# Altium footprint library RES SMD.PcbLib: 33 footprints (part 1 of 3)
Each footprint in its own frame and in the unit in brackets; x right, y up, seen from the top. Pads: shape width x height; smd on the part's side, far side on the other; paste and mask are expansions set on the pad; w line width, h text height; cw(c..) or ccw(c..) is an arc to the next point about the centre after c.
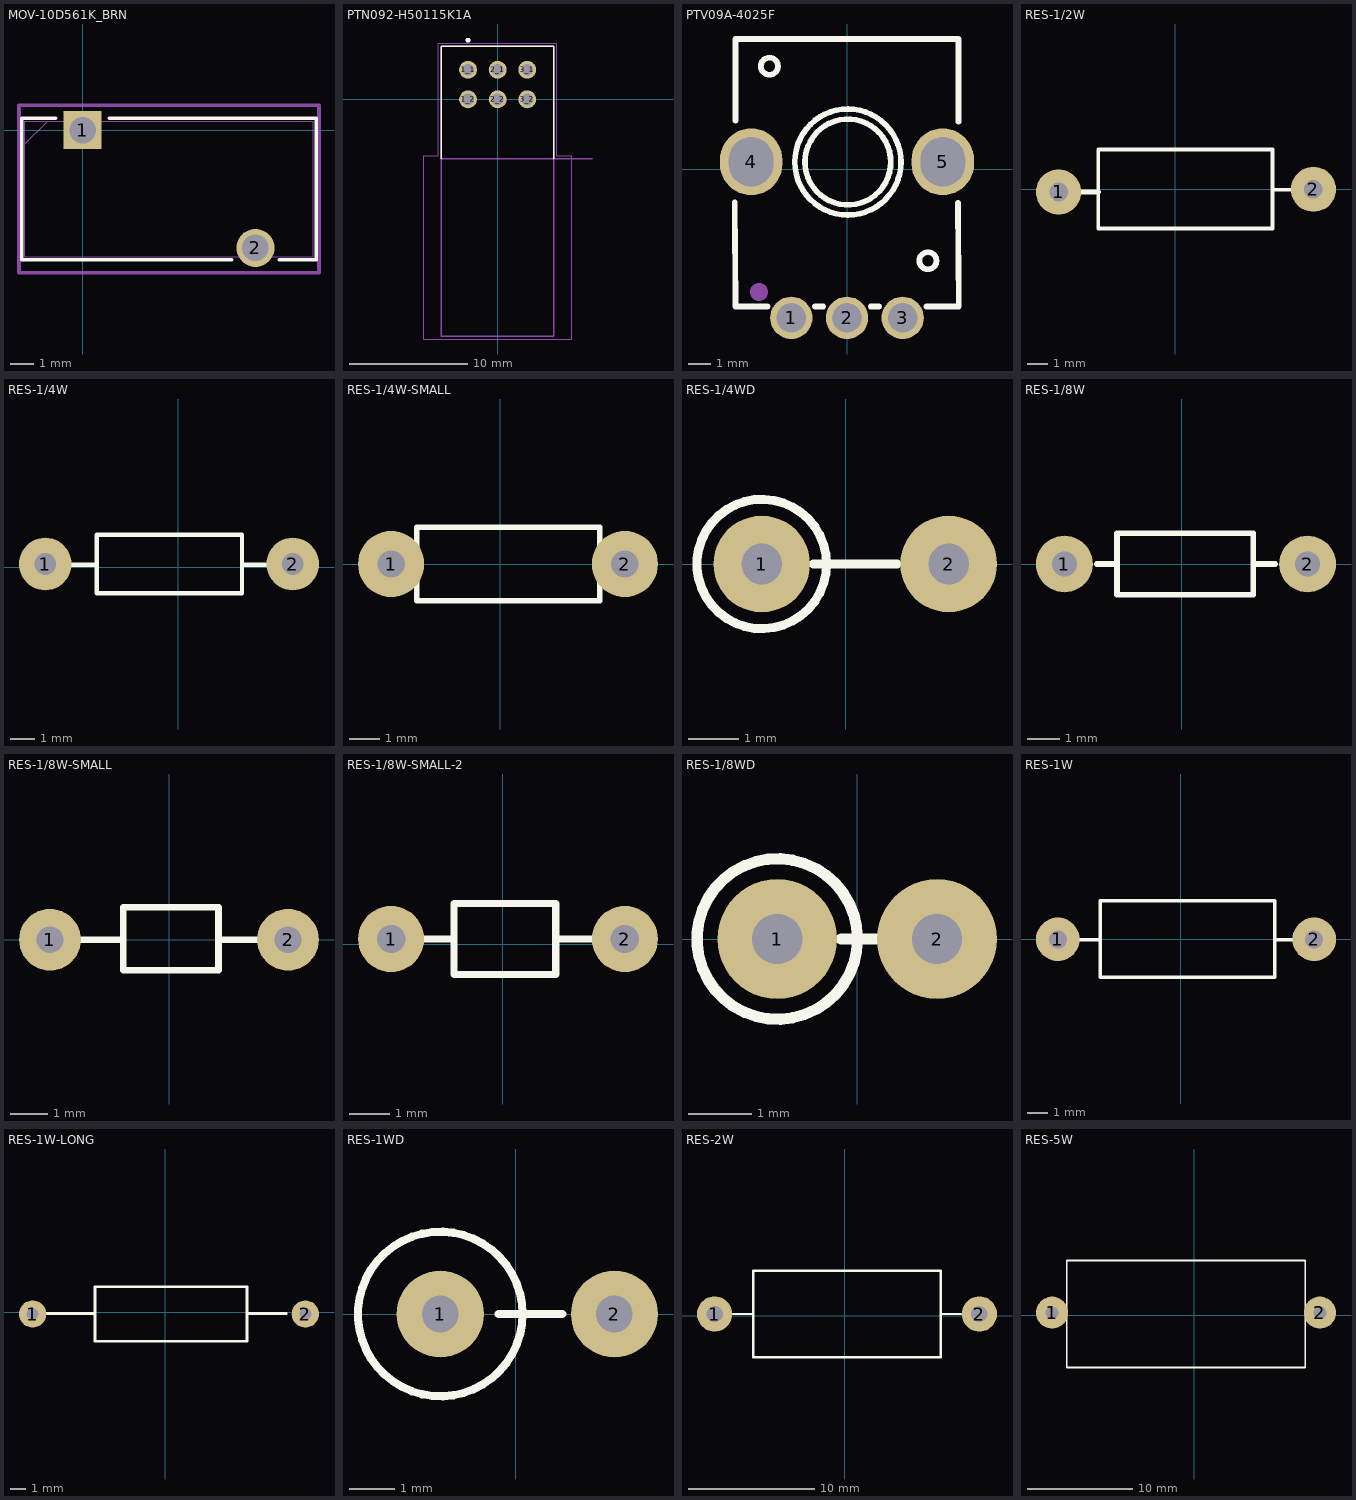
[diagram p0: the footprints below, top view; thin cyan lines are the x and y axes]

## MOV-10D561K_BRN [mil]
pads (2):
  rect 65x65 / inner round 60 / far side rect 65x65 hole 45 paste-32.5 mask+0: 1(0,0)
  round 65 / inner round 60 / far side round 65 hole 45 paste-32.5 mask+0: 2(295,-201)
Top Overlay:
  lines w6: -45.6,20.5 -103.5,20.5 -103.5,-221.5 254.27,-221.5 ; 45.6,20.5 398.5,20.5 398.5,-221.5 335.73,-221.5
Mechanical 15:
  lines w1: -98.5,-23.5 -59.5,15.5 ; -98.5,-216.5 -98.5,15.5 393.5,15.5 393.5,-216.5 -98.5,-216.5
  lines w6: -108.5,-243.5 403.5,-243.5 403.5,42.5 -108.5,42.5 -108.5,-243.5
Mechanical 29:
  text "'.Designator'" at -75,-125 h50
3D body "MOV-10D561K_BRN.step": height 727.99, standoff -250, extent -90.98,-221.84 400.99,21.86

## PTN092-H50115K1A [mm]
height 11.3
pads (6):
  round 1.508 hole 1: 1_1(-2.5,2.5) 1_2(-2.5,0) 2_1(0,2.5) 2_2(0,0) 3_1(2.5,2.5) 3_2(2.5,0)
Top Overlay:
  circle w0.2: c-2.5,5 r0.1
  lines w0.127: -4.75,-5 -4.75,4.5 4.75,4.5 4.75,-5
Mechanical 13:
  circle w0.2: c-2.5,5 r0.1
  lines w0.127: 8,-5 -4.75,-5 ; -4.75,-5 -4.75,4.5 4.75,4.5 4.75,-20 -4.75,-20 -4.75,-5
  text "PCB EDGE" at 5.25,-4.75 h1.02
Mechanical 15:
  lines w0.05: -6.25,-20.25 6.25,-20.25 6.25,-4.75 5,-4.75 5,4.75 -5,4.75 -5,-4.75 -6.25,-4.75 -6.25,-20.25
Mechanical 29:
  text "'.Designator'" at -2.667,-2.54 h1.52
3D body "User Library-Bournes Potentiometer PTD90 Series.STEP": height 13.8, standoff -1, extent -4.8,-19.946 4.699,4.706

## PTV09A-4025F [mm]
pads (5):
  round 1.9 hole 1.3 slot 1.305 at 0 deg paste+0 mask+0.051: 1(-2.515,-6.67) 2(-0.015,-6.67) 3(2.485,-6.67)
  oval 2.8x3 hole 2 slot 2.2 at 90 deg paste+0 mask+0.051: 4(-4.315,0.33) 5(4.285,0.33)
Top Overlay:
  lines w0.254: -5.045,-1.49 -5.015,-6.16 -3.58,-6.16 ; -5.015,2.18 -5.015,5.84 4.985,5.84 4.985,2.13 ; -3.879,4.62 ccw(c-3.495,4.62) -3.879,4.624 ; -2.355,0.32 ccw(c0.025,0.32) -2.355,0.326 ; -1.9,0.32 ccw(c0.025,0.321) -1.9,0.325 ; -1.45,-6.16 -1.08,-6.16 ; 1.05,-6.16 1.42,-6.16 ; 3.231,-4.11 ccw(c3.615,-4.11) 3.231,-4.106 ; 3.55,-6.16 4.995,-6.16 4.965,-1.52
Mechanical 29:
  lines w0.4: -4.165,-5.51 ccw(c-3.965,-5.51) -4.165,-5.505
  text "'.Designator'" at 0.127,0.762 h1.52
3D body "User Library-PTV09A-4.STEP": height 34.14, standoff -1.13, extent -5.65,-6.758 5.65,5.842

## RES-1/2W [mil]
height 100
pads (2):
  round 85 hole 35: 1(-220,-5) 2(260,0)
Top Overlay:
  lines w7: 183,-1 221,-1 ; -145,-73.81 -145,75 183,75 183,-73.81 -145,-73.81
  lines w10: -195,-5 -145,-5
Mechanical 29:
  text "'.Designator'" at -130,-30.01 h60
3D body "User Library-Metal film resistor0_5W.step": height 121.06, standoff -118.11, extent -230,-60 270,56.14

## RES-1/4W [mil]
height 100
pads (2):
  round 85 hole 35: 1(-215,5) 2(185,5)
Top Overlay:
  lines w7: -173,4 -132,4 ; 103,4 141,4 ; -132,-42.24 103,-42.24 103,52.25 -132,52.25 -132,-42.24
Mechanical 29:
  text "'.Designator'" at -160,-15.01 h60
3D body "User Library-Res40-Axial Short 0_25W-0_1R.step": height 95, standoff -78.74, extent -226.8,-42.24 196.82,52.25

## RES-1/4W-SMALL [mil]
height 100
pads (2):
  round 85 hole 35: 1(-140,0) 2(160,0)
Top Overlay:
  lines w7: -148,-1 -107,-1 ; 128,-1 166,-1 ; -107,-47.24 -107,47.25 128,47.25 128,-47.24 -107,-47.24
Mechanical 29:
  text "'.Designator'" at -135,-10.01 h60
3D body "User Library-R-Axial-0_25W-7_62.step": height 97.35, standoff -146.85, extent -151.8,-47.35 171.82,47.36

## RES-1/4WD [mil]
height 100
pads (2):
  round 75 hole 31.5: 1(-65,0) 2(80,0)
Top Overlay:
  circle w7: c-65,0 r50.25
  lines w7: -25,0 40,0
Mechanical 29:
  text "'.Designator'" at -75,-20.01 h60
3D body "User Library-RESAD375W60L650D230_0_25W.STEP": height 379.42, standoff -104.83, extent -112.36,-45 92.36,45.55

## RES-1/8W [mil]
height 100
pads (2):
  round 70 hole 31: 1(-145,0) 2(155,0)
Top Overlay:
  lines w7: -105,0 -80,0 ; 88,0 115,0 ; -80,-38 -80,38 88,38 88,-38 -80,-38
Mechanical 29:
  text "'.Designator'" at -155,-25.01 h60
3D body "SW3DPS-RESISTOR 7_62MM DIP-DEFAULT.STEP": height 79.37, standoff -78.11, extent -154.45,-40 164.45,38.74

## RES-1/8W-SMALL [mil] "R 1/8W, 2 pin, 200mil"
height 100
pads (2):
  round 65 hole 28: 1(-125,0) 2(125,0)
Top Overlay:
  lines w7: -95,0 -48,0 ; 55,0 95,0 ; -48,-32 -48,34 52,34 52,-32 -48,-32
Mechanical 29:
  text "'.Designator'" at -120,-25.01 h60
3D body "SW3dPS-Res_Normal (0.25W).STEP": height 76.31, standoff -78.11, extent -135,-35.48 135,37

## RES-1/8W-SMALL-2 [mil] "R 1/8W, 2 pin, 200mil"
height 100
pads (2):
  round 65 hole 28: 1(-110,5) 2(120,5)
Top Overlay:
  lines w7: -95,5 -48,5 ; 55,5 95,5 ; -48,-30 -48,40 52,40 52,-30 -48,-30
Mechanical 29:
  text "'.Designator'" at -145,-15.01 h60
3D body: height 74.8, standoff -78.74, extent -120.98,-30 130.98,40.87

## RES-1/8WD [mm]
height 2.54
pads (2):
  round 1.905 hole 0.8: 1(-1.27,0) 2(1.27,0)
Top Overlay:
  circle w0.178: c-1.27,0 r1.276
  lines w0.178: -0.254,0 0.381,0
Mechanical 29:
  text "'.Designator'" at -3.556,0.889 h1.52
3D body "SW3dPS-Res_Stand.STEP": height 7.3, standoff -1.45, extent -2.159,-0.92 1.553,0.921

## RES-1W [mil]
height 100
pads (2):
  round 85 hole 35: 1(-240,0) 2(260,0)
Top Overlay:
  lines w7: -198,-1 -157,-1 ; 183,-1 221,-1 ; -157,-73.81 -157,75 183,75 183,-73.81 -157,-73.81
Mechanical 29:
  text "'.Designator'" at -195,-25.01 h60
3D body "User Library-Res50-Axial 0_5W-3_3K.step": height 188.98, standoff -180.12, extent -254.76,-73.81 274.77,73.82

## RES-1W-LONG [mil]
height 100
pads (2):
  round 70 hole 31: 1(-340,-5) 2(360,-5)
Top Overlay:
  lines w7: -313,-4 -180,-4 ; 210,-4 311,-4 ; -180,-75 -180,65 210,65 210,-75 -180,-75
Mechanical 29:
  text "'.Designator'" at -285,-30.01 h60
3D body "SW3dPS-Resistor 5-band.STEP": height 142, standoff -125, extent -335.74,-70 365.75,62

## RES-1WD [mil]
height 100
pads (2):
  round 75 hole 31.5: 1(-65,0) 2(85,0)
Top Overlay:
  circle w7: c-65,0 r70.87
  lines w7: -15,0 40,0
Mechanical 29:
  text "'.Designator'" at -80,-35.01 h60
3D body "SW3DPS-0_5W METAL FILM RESISTOR-DEFAULT.STEP": height 498.19, standoff -198.66, extent -135,-66.92 105.16,66.93

## RES-2W [mil] "R2W, 2 pin, 700mil"
height 200
pads (2):
  round 110 hole 51.18: 1(-405,5) 2(420,5)
Top Overlay:
  lines w7: -355,5 -285,5 -285,140 300,140 300,-130 -285,-130 ; 300,5 375,5
  lines w7.87: -285,-130 -285,5
Mechanical 29:
  text "'.Designator'" at -320,-15.01 h60
3D body "SW3dPS-AXIAL_RESISTOR(3W).STEP": height 276.77, standoff -128.74, extent -428.01,-126 446.01,133.84

## RES-5W [mil] "R5W , 2 pin, 400 x 950mil"
height 400
pads (2):
  round 120 hole 47.24: 1(-530,10) 2(470,10)
Top Overlay:
  lines w7: -475,-195 415,-195 415,205 -475,205 -475,-195
Mechanical 29:
  text "'.Designator'" at -355,-115.01 h60
3D body "User Library-5W Resistor.STEP": height 362.6, standoff -98.43, extent -549.68,-185 489.69,196.89